# Altium footprint library L_THT.PcbLib: 3 footprints
Each footprint in its own frame and in the unit in brackets; x right, y up, seen from the top. Pads: shape width x height; smd on the part's side, far side on the other; paste and mask are expansions set on the pad; w line width, h text height; cw(c..) or ccw(c..) is an arc to the next point about the centre after c.
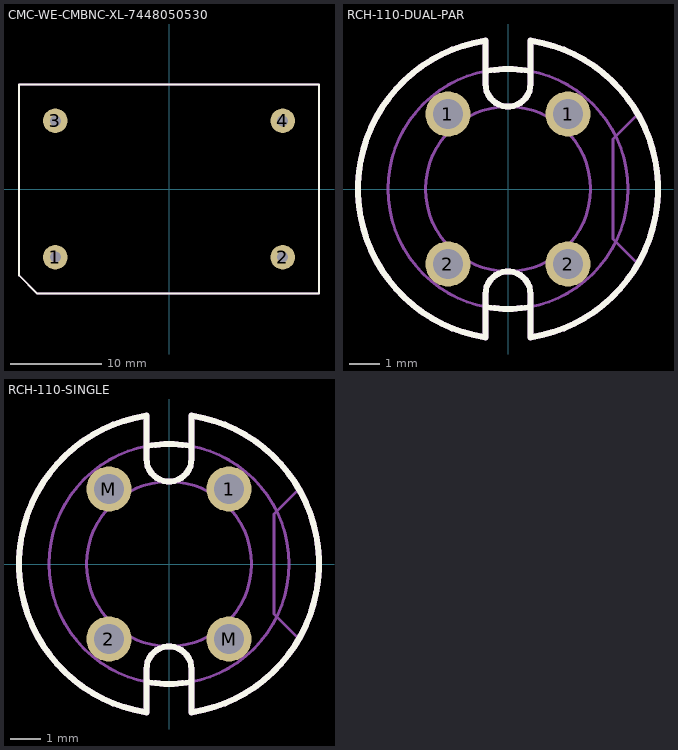
[diagram p0: the footprints below, top view; thin cyan lines are the x and y axes]

## CMC-WE-CMBNC-XL-7448050530 [mm]
pads (4):
  round 2.7 hole 1.2: 1(-12.5,-7.5) 2(12.5,-7.5) 3(-12.5,7.5) 4(12.5,7.5)
Top Overlay:
  lines w0.2: -16.5,-9.5 -16.5,11.5 16.5,11.5 16.5,-11.5 -14.5,-11.5 -16.5,-9.5
Top Assembly:
  lines w0.2: -16.5,-9.5 -16.5,11.5 16.5,11.5 16.5,-11.5 -14.5,-11.5 -16.5,-9.5
3D body: height 0, standoff -5.5, extent 12.1,7.1 12.9,7.9
3D body: height 0, standoff -5.5, extent 12.1,-7.9 12.9,-7.1
3D body: height 0, standoff -5.5, extent -12.9,-7.9 -12.1,-7.1
3D body: height 0, standoff -5.5, extent -12.9,7.1 -12.1,7.9
3D body: height 28, standoff 2, extent -1.5,-11 1.5,11
3D body: height 2, standoff 0, extent -16.5,-11.5 16.5,11.5
3D body "CMC-WE-CMBNC-XL-7448050530.step": height 33.08, standoff 0.79, extent -16.496,-10.5 16.496,10.5

## RCH-110-DUAL-PAR [mm] "RCH-110, RCH110B, RL110 / For L <= 33uH"
pads (4):
  round 1.5 hole 1: 1(-2,2.5) 1(2,2.5) 2(-2,-2.5) 2(2,-2.5)
Top Overlay:
  lines w0.2: -0.75,-3.929 ccw(c0,0) 0.75,-3.929 ; -0.75,3.929 cw(c0,0) 0.75,3.929 ; -0.75,-4.943 cw(c0,0) -0.75,4.943 -0.75,3.5 ccw(c0,3.5) 0.75,3.5 0.75,4.943 cw(c0,0) 0.75,-4.943 0.75,-3.5 ccw(c0,-3.5) -0.75,-3.5 -0.75,-4.943
Top Assembly:
  lines w0.2: -0.75,-3.929 ccw(c0,0) 0.75,-3.929 ; -0.75,3.929 cw(c0,0) 0.75,3.929 ; -0.75,-4.943 cw(c0,0) -0.75,4.943 -0.75,3.5 ccw(c0,3.5) 0.75,3.5 0.75,4.943 cw(c0,0) 0.75,-4.943 0.75,-3.5 ccw(c0,-3.5) -0.75,-3.5 -0.75,-4.943
Top 3D Body:
  circle w0.1: c0,0 r4
  circle w0.1: c0,0 r2.75
  lines w0.1: -0.75,-4.943 cw(c0,0) -0.75,4.943 -0.75,3.5 ccw(c0,3.5) 0.75,3.5 0.75,4.943 cw(c0,0) 0.75,-4.943 0.75,-3.5 ccw(c0,-3.5) -0.75,-3.5 -0.75,-4.943 ; 3.5,-1.67 3.5,1.67 4.33,2.5 cw(c0,0) 4.33,-2.5 3.5,-1.67
3D body: height 8.5, standoff 3, extent -4,-4 4,4
3D body: height 8.5, standoff 3, extent -2.75,-2.75 2.75,2.75
3D body: height 3, standoff 1, extent -5,-4.943 5,4.943
3D body: height 10.5, standoff 8.5, extent -5,-4.943 5,4.943
3D body: height 1, standoff 0, extent 3.5,-2.5 5,2.5
3D body: height 1, standoff 0, extent -5,-2.5 -3.5,2.5
3D body: height 1, standoff -3.5, extent 1.65,2.15 2.35,2.85
3D body: height 1, standoff -3.5, extent -2.35,2.15 -1.65,2.85
3D body: height 1, standoff -3.5, extent -2.35,-2.85 -1.65,-2.15
3D body: height 1, standoff -3.5, extent 1.65,-2.85 2.35,-2.15

## RCH-110-SINGLE [mm] "RCH-110, RCH110B, RL110 / Only for L >= 39uH"
pads (4):
  round 1.5 hole 1: 1(2,2.5) 2(-2,-2.5) M(-2,2.5) M(2,-2.5)
Top Overlay:
  lines w0.2: -0.75,-3.929 ccw(c0,0) 0.75,-3.929 ; -0.75,3.929 cw(c0,0) 0.75,3.929 ; -0.75,-4.943 cw(c0,0) -0.75,4.943 -0.75,3.5 ccw(c0,3.5) 0.75,3.5 0.75,4.943 cw(c0,0) 0.75,-4.943 0.75,-3.5 ccw(c0,-3.5) -0.75,-3.5 -0.75,-4.943
Top Assembly:
  lines w0.2: -0.75,-3.929 ccw(c0,0) 0.75,-3.929 ; -0.75,3.929 cw(c0,0) 0.75,3.929 ; -0.75,-4.943 cw(c0,0) -0.75,4.943 -0.75,3.5 ccw(c0,3.5) 0.75,3.5 0.75,4.943 cw(c0,0) 0.75,-4.943 0.75,-3.5 ccw(c0,-3.5) -0.75,-3.5 -0.75,-4.943
Top 3D Body:
  circle w0.1: c0,0 r4
  circle w0.1: c0,0 r2.75
  lines w0.1: -0.75,-4.943 cw(c0,0) -0.75,4.943 -0.75,3.5 ccw(c0,3.5) 0.75,3.5 0.75,4.943 cw(c0,0) 0.75,-4.943 0.75,-3.5 ccw(c0,-3.5) -0.75,-3.5 -0.75,-4.943 ; 3.5,-1.67 3.5,1.67 4.33,2.5 cw(c0,0) 4.33,-2.5 3.5,-1.67
3D body: height 8.5, standoff 3, extent -4,-4 4,4
3D body: height 8.5, standoff 3, extent -2.75,-2.75 2.75,2.75
3D body: height 3, standoff 1, extent -5,-4.943 5,4.943
3D body: height 10.5, standoff 8.5, extent -5,-4.943 5,4.943
3D body: height 1, standoff 0, extent 3.5,-2.5 5,2.5
3D body: height 1, standoff 0, extent -5,-2.5 -3.5,2.5
3D body: height 1, standoff -3.5, extent 1.65,2.15 2.35,2.85
3D body: height 1, standoff -3.5, extent -2.35,2.15 -1.65,2.85
3D body: height 1, standoff -3.5, extent -2.35,-2.85 -1.65,-2.15
3D body: height 1, standoff -3.5, extent 1.65,-2.85 2.35,-2.15